# EAGLE library part LT6000 (library omcOpAmp)
LTC6000 - Single 1.8V, 13μA Precision Rail-to-Rail Op Amp Ideal for Battery-Powered Applications Low Voltage: 1.8V to 16V Operation Low Current: 16μA/Amplifier Max Shutdown to 1.5μA Max Low Offset Voltage: 600μV Max Rail-to-Rail Input and Output Fully Specified on 1.8V and 5V Supplies Operating Temperature Range: –40°C to 85°C Gain bandwidth product: 60kHz Datasheet Linear Technology <http://cds.linear.com/docs/en/datasheet/600012fa.pdf>
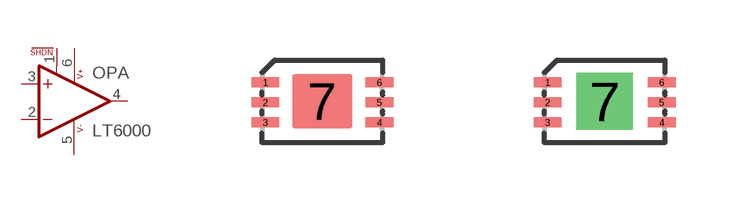
[diagram p0: symbol with the pads of DFN06; footprints DFN06, DFN06-THT]

Designator prefix OPA; gates G$1=OPV_NSHTD G$2=PWR

## LT6000R (DIST#CONRAD#: 1255128 - 62; DIST#DIGIKEY#: LT6000CDCB#TRMPBFCT-ND; VALUE: LT6000; VENDOR#: Linear Technology,LT6000CDCB)  [DFN06]
1  G$1:!SHDN  in
2  G$1:-IN  in
3  G$1:+IN  in
4  G$1:OUT  out
5  G$2:V-  pwr
6  G$2:V+  pwr

## LT6000W (DIST#CONRAD#: 1255128 - 62; DIST#DIGIKEY#: LT6000CDCB#TRMPBFCT-ND; VALUE: LT6000; VENDOR#: Linear Technology,LT6000CDCB)  [DFN06-THT]
Pads as for DFN06

## Footprint DFN06 (pad centres in mm)
DFN6 2x3mm 0.95 pitch Reflow lead footprint Mechanical, p. 15 <http://cds.linear.com/docs/en/datasheet/600012fa.pdf>
smd 0.7 x 0.25: 1 -1.425,0.47; 2 -1.425,-0.03; 3 -1.425,-0.53; 4 1.431,-0.53; 5 1.431,-0.03; 6 1.431,0.47
smd 1.5 x 1.35: 7 0,0

## Footprint DFN06-THT (pad centres in mm)
DFN6 2x3mm 0.95 pitch Wave lead footprint Middle thermal pad is replaced by drill, to allow soldering from backside through the drill Mechanical, p. 15 <http://cds.linear.com/docs/en/datasheet/600012fa.pdf>
smd 0.7 x 0.25: 1 -1.425,0.47; 2 -1.425,-0.03; 3 -1.425,-0.53; 4 1.431,-0.53; 5 1.431,-0.03; 6 1.431,0.47
drill 0.8 pad 1.422 square: 7 0,0